# EAGLE library part REF5050_D_8 (library 0_texas-instrument)
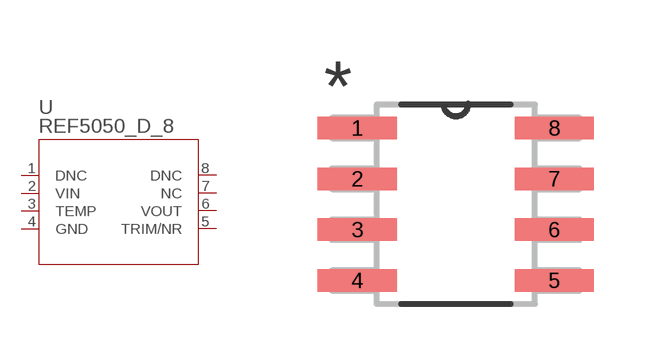
[diagram p1: symbol with the pads of D8; footprint D8]

Designator prefix U

## REF5050_D_8 (DATASHEETURL: httpwww.ti.comlitgpnREF5050; FAMILY_NAME: SERIES VOLTAGE REFERENCE; GENERIC_PART_NUMBER: REF5050; INDUSTRY_STD_PKG_TYPE: SOIC; MANUFACTURER: Texas Instruments; MANUFACTURER_PART_NUMBER: ref5050_d_8; PACKAGE_DESIGNATOR: D; PIN_COUNT: 8; VENDOR: Texas Instruments)  [D8]
1  DNC  pas
2  VIN  in
3  TEMP  pas
4  GND  sup
5  TRIM/NR  pas
6  VOUT  out
7  NC  pas
8  DNC  pas

## Footprint D8 (pad centres in mm)
smd 1.981 x 0.559: 1 -2.464,1.905; 2 -2.464,0.635; 3 -2.464,-0.635; 4 -2.464,-1.905; 5 2.464,-1.905; 6 2.464,-0.635; 7 2.464,0.635; 8 2.464,1.905